# Altium schematic symbol library ACS730.Schlib: 1 symbol
Pins are listed as number, name and electrical type; pins without a type are passive.

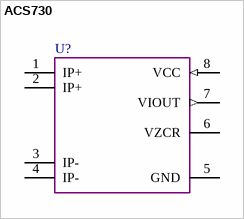
[diagram p0: symbol ACS730]

## ACS730
designator U?  (value not drawn)
pins: 1 IP+, 2 IP+, 3 IP-, 4 IP-, 5 GND, 6 VZCR, 7 VIOUT (out), 8 VCC (in)